# Altium schematic symbol library 74479325207222.SchLib: 1 symbol
Pins are listed as number, name and electrical type; pins without a type are passive.

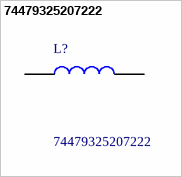
[diagram p0: symbol 74479325207222]

## 74479325207222
designator L?
2.2 H Shielded Molded Inductor 4 A 60mOhm Max 1008 (2520 Metric); Manufacturer_Name: Wurth Elektronik; Geometry.Height: 1.2mm; Mouser Part Number: *; Mouser Price/Stock: *; Manufacturer_Part_Number: 74479325207222; Datasheet Link: https://www.we-online.com/components/products/datasheet/74479325207222.pdf
footprint 74479325207222
pins: 1, 2